# Altium schematic symbol library interface.SchLib: 4 symbols
Pins are listed as number, name and electrical type; pins without a type are passive.

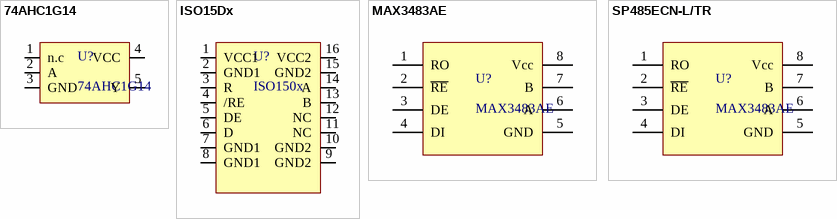
[diagram p0: symbols 74AHC1G14 to SP485ECN-L/TR]

## 74AHC1G14
designator U?
Manufacturer: nexperia; Part Number: 74AHC1G14
footprint SOT95P245X110-5N (SOT23, 5-Leads, Body 2.90x2.45mm, Pitch 0.95mm, IPC Medium Density)
pins: 1 n.c, 2 A, 3 GND, 4 VCC, 5 Y

## ISO15Dx
designator U?, comment ISO150x
ISOx5 Isolated 3.3-V Half- and Full-Duplex RS-485 Transceivers; Part Number: 74AHC1G14; Manufacturer: nexperia
footprint SOIC127P1030X265-16N (SOIC, 16-Leads, Body 10.30x7.50mm, Pitch 1.27mm, IPC Medium Density)
pins: 1 VCC1, 2 GND1, 3 R, 4 /RE, 5 DE, 6 D, 7 GND1, 8 GND1, 9 GND2, 10 GND2, 11 NC, 12 NC, 13 B, 14 A, 15 GND2, 16 VCC2

## MAX3483AE
designator U?
pins: 1 RO, 2 ~{RE}, 3 DE, 4 DI, 5 GND, 6 A, 7 B, 8 Vcc

## SP485ECN-L/TR
designator U?, comment MAX3483AE
Part Number: SP481ECN-L/TR; Manufacturer: MaxLinear
footprint SOIC127P600X175-8N (SOIC, 8-Leads, Body 4.90x3.90mm, Pitch 1.27mm, IPC Medium Density)
pins: 1 RO, 2 ~{RE}, 3 DE, 4 DI, 5 GND, 6 A, 7 B, 8 Vcc